# EAGLE library part TPS61200 (library TPS61200)
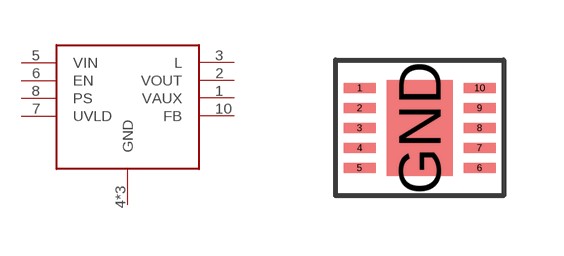
[diagram p0: symbol with the pads of MCP73833; footprint MCP73833]

Designator prefix -

## TPS61200  [MCP73833]
1  VAUX
2  VOUT
3  L
4  GND
5  VIN
6  EN
7  UVLD
8  PS
9  GND
10  FB
GND  GND

## Footprint MCP73833 (pad centres in mm)
smd 0.8 x 0.25: 1 -1.5,1; 2 -1.5,0.5; 3 -1.5,0; 4 -1.5,-0.5; 5 -1.5,-1; 6 1.5,-1; 7 1.5,-0.5; 8 1.5,0; 9 1.5,0.5; 10 1.5,1
smd 1.65 x 2.4: GND 0,0